# Altium footprint library PcbLib1.PcbLib: 60 footprints (part 1 of 4)
Each footprint in its own frame and in the unit in brackets; x right, y up, seen from the top. Pads: shape width x height; smd on the part's side, far side on the other; paste and mask are expansions set on the pad; w line width, h text height; cw(c..) or ccw(c..) is an arc to the next point about the centre after c.
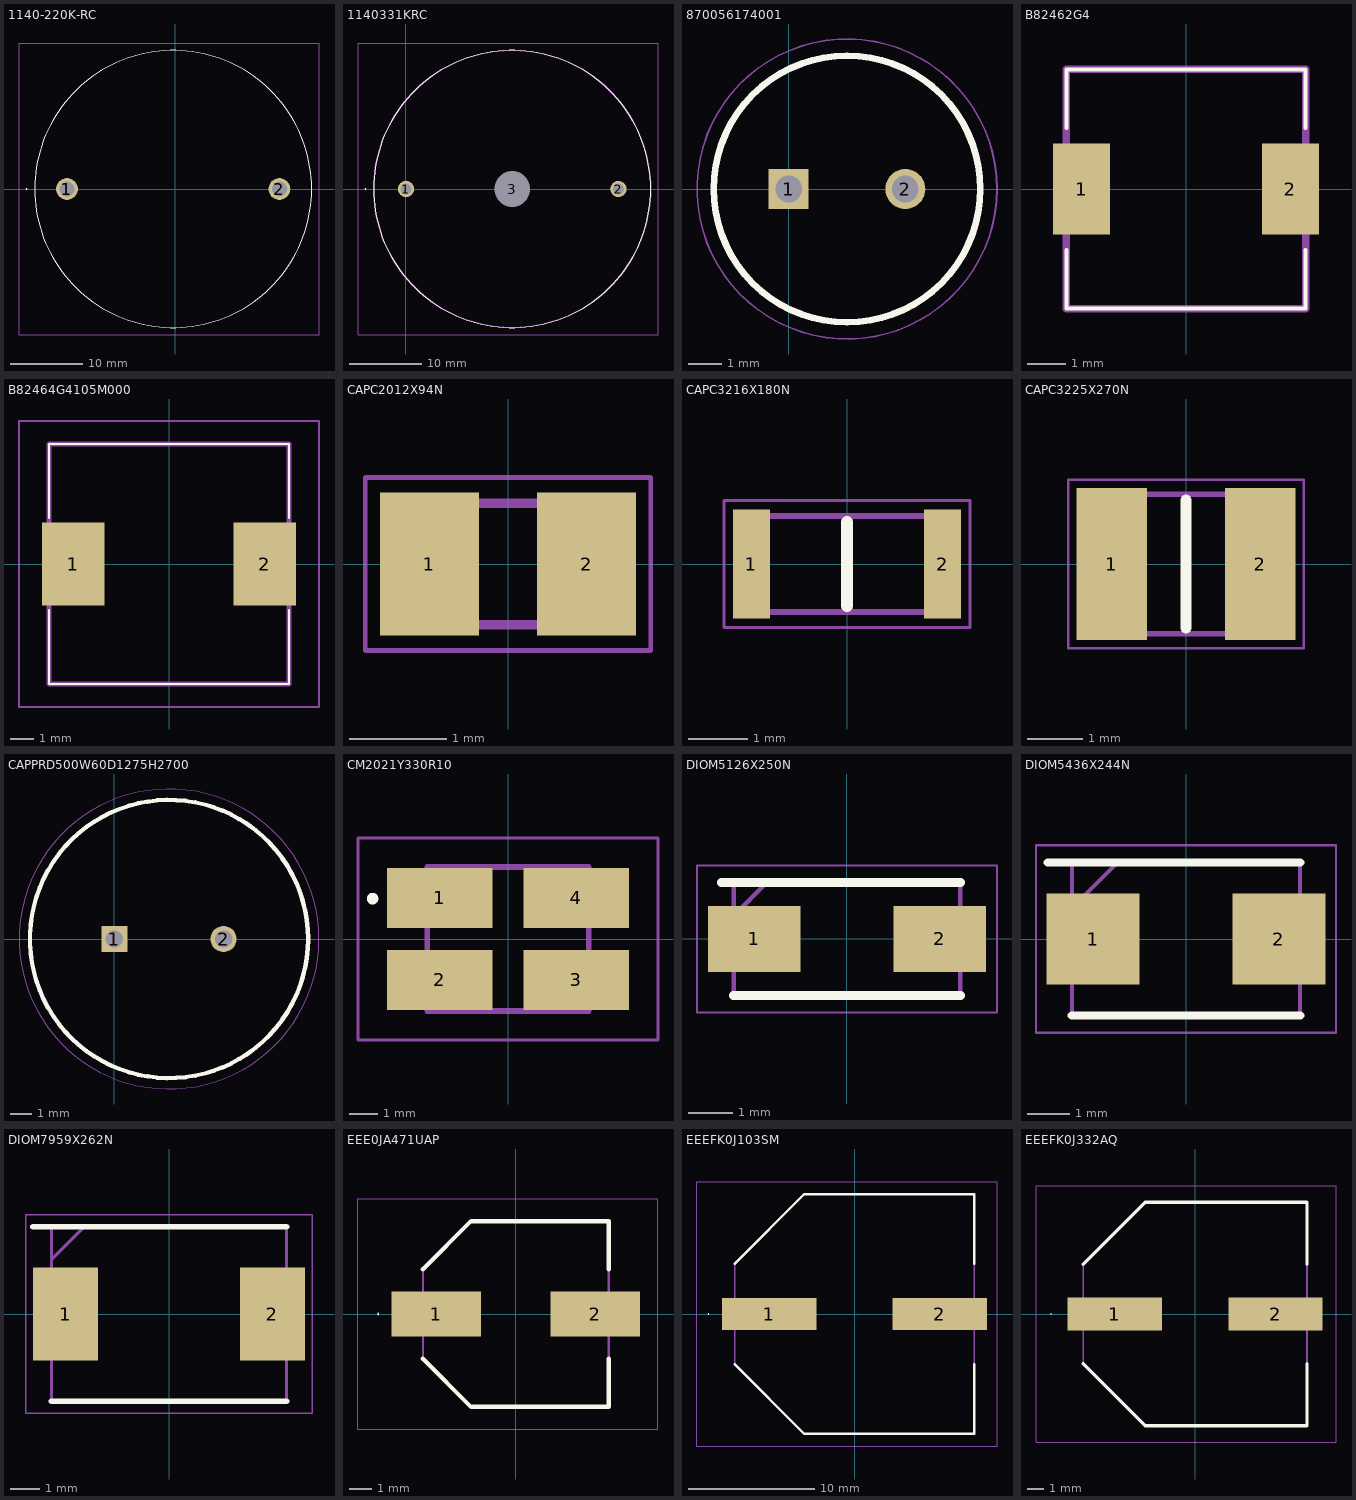
[diagram p0: the footprints below, top view; thin cyan lines are the x and y axes]

## 1140-220K-RC [mm] "22uH"
pads (2):
  round 3 hole 2.1: 1(-14.859,0) 2(14.351,0)
Top Overlay:
  lines w0.1: -19.304,0 cw(c-0.254,0) 18.796,0 cw(c-0.254,0) -19.304,0
  lines w0.2: -20.459,0 ccw(c-20.409,0) -20.359,0 ccw(c-20.409,0) -20.459,0
Mechanical 15:
  lines w0.1: -21.459,-20.05 -21.459,20.05 19.796,20.05 19.796,-20.05 -21.459,-20.05
3D body "1140-220K-RC.stp": height 26.17, standoff -12.69, extent -19.304,-19.05 18.796,19.05

## 1140331KRC [mil]
pads (3):
  round 88.31 hole 58.87: 1(0,0) 2(1150,0)
  round 96.5 hole 193 unplated: 3(575,0)
Top Overlay:
  lines w3.94: -175,0 ccw(c575,0) 1325,0 ccw(c575,0) -175,0
  lines w7.87: -220.47,0 cw(c-218.5,0) -216.54,0 cw(c-218.5,0) -220.47,0
Mechanical 13:
  lines w7.87: -175,0 ccw(c575,0) 1325,0 ccw(c575,0) -175,0
Mechanical 15:
  lines w3.94: -259.84,-789.37 1364.37,-789.37 1364.37,789.37 -259.84,789.37 -259.84,-789.37

## 870056174001 [mm] "10uF"
pads (2):
  rect 1.2x1.2 hole 0.8: 1(0,0)
  round 1.2 hole 0.8: 2(3.5,0)
Top Overlay:
  circle w0.2: c1.75,0 r4
Mechanical 13:
  circle w0.1: c1.75,0 r4
Mechanical 15:
  circle w0.05: c1.75,0 r4.5
3D body "870056174001.stp": height 9, standoff -10, extent -2.5,-4.25 6,4.25

## B82462G4 [mm]
pads (2):
  rect 1.5x2.4 smd: 1(-2.75,0) 2(2.75,0)
Top Overlay:
  lines w0.1: -3.15,-1.6 -3.15,-3.15 3.15,-3.15 3.15,-1.6 ; -3.15,1.6 -3.15,3.15 3.15,3.15 3.15,1.6
Mechanical 13:
  lines w0.2: -3.15,-3.15 -3.15,3.15 3.15,3.15 3.15,-3.15 -3.15,-3.15
3D body "B82462G4334M000.stp": height 2.93, standoff 0.01, extent -5.275,-5.275 5.243,5.243

## B82464G4105M000 [mm]
pads (2):
  rect 2.7x3.6 smd: 1(-4.15,0) 2(4.15,0)
Top Overlay:
  lines w0.1: -5.2,-2 -5.2,-5.2 5.2,-5.2 5.2,-2 ; -5.2,2 -5.2,5.2 5.2,5.2 5.2,2
Mechanical 13:
  lines w0.2: -5.2,-5.2 -5.2,5.2 5.2,5.2 5.2,-5.2 -5.2,-5.2
Mechanical 15:
  lines w0.1: -6.5,-6.2 -6.5,6.2 6.5,6.2 6.5,-6.2 -6.5,-6.2
3D body "B82464G4105M000.stp": height 6, standoff -6, extent -5.65,-2.921 6.35,1.799

## CAPC2012X94N [mm]
pads (2):
  rect 1.02x1.47 smd: 1(-0.81,0) 2(0.81,0)
Mechanical 13:
  lines w0.1: -1.005,-0.625 -1.005,0.625 1.005,0.625 1.005,-0.625 -1.005,-0.625
Mechanical 15:
  lines w0.05: -1.47,-0.89 -1.47,0.89 1.47,0.89 1.47,-0.89 -1.47,-0.89
3D body "08055A471GAT2A.stp": height 0.94, standoff 0, extent -1.005,-0.625 1.005,0.625

## CAPC3216X180N [mm]
pads (2):
  rect 0.62x1.82 smd: 1(-1.6,0) 2(1.6,0)
Top Overlay:
  lines w0.2: 0,-0.7 0,0.7
Mechanical 13:
  lines w0.1: -1.6,-0.8 -1.6,0.8 1.6,0.8 1.6,-0.8 -1.6,-0.8
Mechanical 15:
  lines w0.05: -2.06,-1.06 -2.06,1.06 2.06,1.06 2.06,-1.06 -2.06,-1.06
3D body "C3216X5R0J226M160AA.stp": height 1.8, standoff 0, extent -1.6,-0.8 1.6,0.8

## CAPC3225X270N [mm]
pads (2):
  rect 1.26x2.72 smd: 1(-1.33,0) 2(1.33,0)
Top Overlay:
  lines w0.2: 0,-1.15 0,1.15
Mechanical 13:
  lines w0.1: -1.6,-1.25 -1.6,1.25 1.6,1.25 1.6,-1.25 -1.6,-1.25
Mechanical 15:
  lines w0.05: -2.11,-1.51 -2.11,1.51 2.11,1.51 2.11,-1.51 -2.11,-1.51
3D body "GRM32EC72A106KE05K.stp": height 2.7, standoff 0, extent -1.6,-1.25 1.6,1.25

## CAPPRD500W60D1275H2700 [mm]
pads (2):
  rect 1.2x1.2 hole 0.8: 1(0,0)
  round 1.2 hole 0.8: 2(5,0)
Top Overlay:
  circle w0.2: c2.5,0 r6.375
Mechanical 13:
  circle w0.1: c2.5,0 r6.375
Mechanical 15:
  circle w0.05: c2.5,0 r6.875
3D body "100ZLJ220M12.5X25.stp": height 27, standoff -10, extent -4,-6.5 9,6.5

## CM2021Y330R10 [mm]
pads (4):
  rect 3.66x2.085 smd: 1(-2.375,1.423) 2(-2.375,-1.422) 3(2.375,-1.422) 4(2.375,1.423)
Top Overlay:
  lines w0.2: -4.7,1.3 ccw(c-4.7,1.4) -4.7,1.5 ccw(c-4.7,1.4) -4.7,1.3
Mechanical 13:
  lines w0.2: -2.8,-2.5 -2.8,2.5 2.8,2.5 2.8,-2.5 -2.8,-2.5
Mechanical 15:
  lines w0.1: -5.205,-3.5 -5.205,3.5 5.205,3.5 5.205,-3.5 -5.205,-3.5
3D body "CM2021Y330R-10.stp": height 3.9, standoff 0, extent -3.996,-2.5 3.996,2.5

## DIOM5126X250N [mm]
pads (2):
  rect 2.1x1.5 smd: 1(-2.1,0) 2(2.1,0)
Top Overlay:
  lines w0.2: -2.85,1.28 2.57,1.28 ; -2.57,-1.28 2.57,-1.28
Mechanical 13:
  lines w0.1: -2.57,0.53 -1.82,1.28 ; -2.57,-1.28 -2.57,1.28 2.57,1.28 2.57,-1.28 -2.57,-1.28
Mechanical 15:
  lines w0.05: -3.4,-1.665 -3.4,1.665 3.4,1.665 3.4,-1.665 -3.4,-1.665
3D body "SMAJ60A_R3.stp": height 2.5, standoff 0, extent -2.57,-1.28 2.57,1.28

## DIOM5436X244N [mm]
pads (2):
  rect 2.2x2.15 smd: 1(-2.2,0) 2(2.2,0)
Top Overlay:
  lines w0.2: -3.275,1.81 2.7,1.81 ; -2.7,-1.81 2.7,-1.81
Mechanical 13:
  lines w0.1: -2.7,0.735 -1.625,1.81 ; -2.7,-1.81 2.7,-1.81 2.7,1.81 -2.7,1.81 -2.7,-1.81
Mechanical 15:
  lines w0.05: -3.55,-2.22 3.55,-2.22 3.55,2.22 -3.55,2.22 -3.55,-2.22
3D body "VS-10BQ030-M3_5BT.stp": height 2.44, standoff 0, extent -2.7,-1.81 2.7,1.81

## DIOM7959X262N [mm]
pads (2):
  rect 2.2x3.15 smd: 1(-3.5,0) 2(3.5,0)
Top Overlay:
  lines w0.2: -4.6,2.952 3.97,2.952 ; -3.97,-2.952 3.97,-2.952
Mechanical 13:
  lines w0.1: -3.97,1.852 -2.87,2.952 ; -3.97,-2.952 3.97,-2.952 3.97,2.952 -3.97,2.952 -3.97,-2.952
Mechanical 15:
  lines w0.05: -4.85,-3.36 4.85,-3.36 4.85,3.36 -4.85,3.36 -4.85,-3.36
3D body "1.5SMC15A.stp": height 2.62, standoff 0, extent -3.97,-2.953 3.97,2.953

## EEE0JA471UAP [mm]
pads (2):
  rect 4x2 smd: 1(-3.55,0) 2(3.55,0)
Top Overlay:
  lines w0.05: -6.175,0 ccw(c-6.15,0) -6.125,0 ccw(c-6.15,0) -6.175,0
  lines w0.2: -4.15,-2 -2,-4.15 4.15,-4.15 4.15,-2 ; -4.15,2 -2,4.15 4.15,4.15 4.15,2
Mechanical 13:
  lines w0.1: -4.15,2 -2,4.15 ; -4.15,2 -4.15,-2 -2,-4.15 4.15,-4.15 4.15,4.15 -2,4.15 ; -4.15,2 -2,4.15
Mechanical 15:
  lines w0.05: -7.05,-5.15 6.35,-5.15 6.35,5.15 -7.05,5.15 -7.05,-5.15
3D body "EEE-FK1E331P.stp": height 0, standoff 0, extent 0,0 0,0

## EEEFK0J103SM [mm]
pads (2):
  rect 7.5x2.5 smd: 1(-6.75,0) 2(6.75,0)
Top Overlay:
  lines w0.05: -11.625,0 ccw(c-11.6,0) -11.575,0 ccw(c-11.6,0) -11.625,0
  lines w0.2: -9.5,-4 -4,-9.5 9.5,-9.5 9.5,-4 ; -9.5,4 -4,9.5 9.5,9.5 9.5,4
Mechanical 13:
  lines w0.1: -9.5,4 -4,9.5 ; -9.5,4 -9.5,-4 -4,-9.5 9.5,-9.5 9.5,9.5 -4,9.5 ; -9.5,4 -4,9.5
Mechanical 15:
  lines w0.05: -12.5,-10.5 11.3,-10.5 11.3,10.5 -12.5,10.5 -12.5,-10.5
3D body "EEV-FK2A221M.stp": height 16.5, standoff 0, extent -10.2,-9.5 10.2,9.5

## EEEFK0J332AQ [mm]
pads (2):
  rect 5.7x2 smd: 1(-4.85,0) 2(4.85,0)
Top Overlay:
  lines w0.05: -8.725,0 ccw(c-8.7,0) -8.675,0 ccw(c-8.7,0) -8.725,0
  lines w0.2: -6.75,-3 -3,-6.75 6.75,-6.75 6.75,-3 ; -6.75,3 -3,6.75 6.75,6.75 6.75,3
Mechanical 13:
  lines w0.1: -6.75,3 -3,6.75 ; -6.75,3 -6.75,-3 -3,-6.75 6.75,-6.75 6.75,6.75 -3,6.75 ; -6.75,3 -3,6.75
Mechanical 15:
  lines w0.05: -9.6,-7.75 8.5,-7.75 8.5,7.75 -9.6,7.75 -9.6,-7.75
3D body "EEV-FK1K101Q.stp": height 0, standoff 0, extent 0,0 0,0